# EAGLE library part LAN8710A (library Revolve)
LAN8710A edit this description Auto generated by make-symbol-device-package-bsdl.ulp Rev. 44 Source: LAN8710A.txt
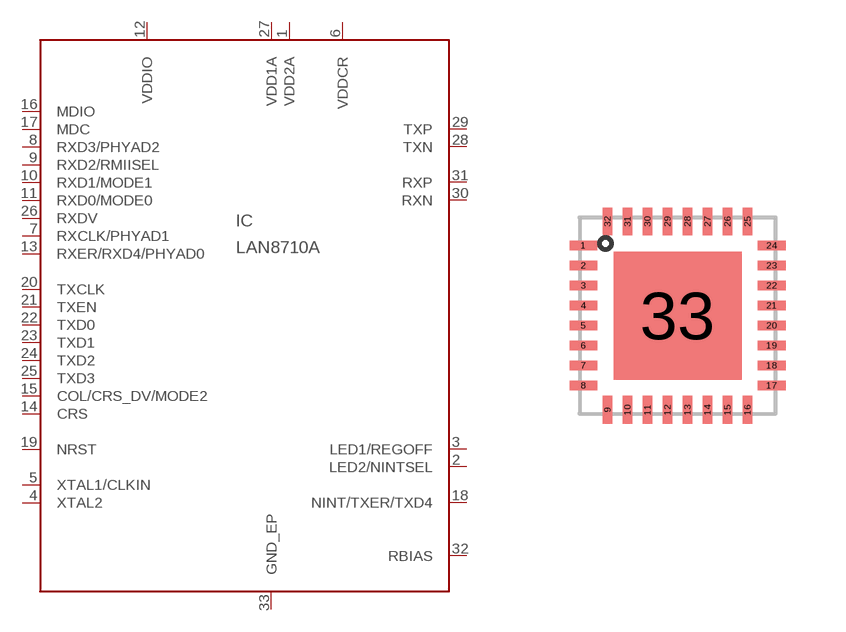
[diagram p3: symbol with the pads of 32-QFN; footprint 32-QFN]

Designator prefix IC

## LAN8710A  [32-QFN]
1  VDD2A  pwr
2  LED2/NINTSEL
3  LED1/REGOFF
4  XTAL2  in
5  XTAL1/CLKIN  in
6  VDDCR  pwr
7  RXCLK/PHYAD1  in
8  RXD3/PHYAD2  in
9  RXD2/RMIISEL  in
10  RXD1/MODE1  in
11  RXD0/MODE0  in
12  VDDIO  pwr
13  RXER/RXD4/PHYAD0  in
14  CRS
15  COL/CRS_DV/MODE2
16  MDIO
17  MDC  in
18  NINT/TXER/TXD4
19  NRST  in
20  TXCLK  out
21  TXEN  out
22  TXD0  out
23  TXD1  out
24  TXD2  out
25  TXD3  out
26  RXDV  in
27  VDD1A  pwr
28  TXN  out
29  TXP  out
30  RXN  in
31  RXP  in
32  RBIAS
33  GND_EP  sup

## Footprint 32-QFN (pad centres in mm)
32-QFN Auto generated by make-symbol-device-package-bsdl.ulp Rev. 44
smd 0.69 x 0.24: 1 -2.355,1.75; 2 -2.355,1.25; 3 -2.355,0.75; 4 -2.355,0.25; 5 -2.355,-0.25; 6 -2.355,-0.75; 7 -2.355,-1.25; 8 -2.355,-1.75; 17 2.355,-1.75; 18 2.355,-1.25; 19 2.355,-0.75; 20 2.355,-0.25; 21 2.355,0.25; 22 2.355,0.75; 23 2.355,1.25; 24 2.355,1.75
smd 0.24 x 0.69: 9 -1.75,-2.355; 10 -1.25,-2.355; 11 -0.75,-2.355; 12 -0.25,-2.355; 13 0.25,-2.355; 14 0.75,-2.355; 15 1.25,-2.355; 16 1.75,-2.355; 25 1.75,2.355; 26 1.25,2.355; 27 0.75,2.355; 28 0.25,2.355; 29 -0.25,2.355; 30 -0.75,2.355; 31 -1.25,2.355; 32 -1.75,2.355
smd 3.2 x 3.2: 33 0,0